# Altium schematic symbol library TLV9161IDBVR.SchLib: 1 symbol
Pins are listed as number, name and electrical type; pins without a type are passive.

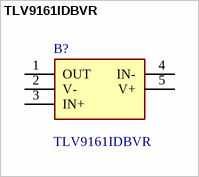
[diagram p0: symbol TLV9161IDBVR]

## TLV9161IDBVR
designator B?
Operational Amplifiers - Op Amps Single 10-MHz, 16-V rail-to-rail input/output, very low noise, high slew rate op amp; Manufacturer_Name: Texas Instruments; Geometry.Height: 1.45mm; Mouser Part Number: 595-TLV9161IDBVR; Mouser Price/Stock: https://www.mouser.co.uk/ProductDetail/Texas-Instruments/TLV9161IDBVR?qs=Rp5uXu7WBW%2FkWJAGvxG3xQ%3D%3D; Manufacturer_Part_Number: TLV9161IDBVR; Datasheet Link: https://www.ti.com/lit/ds/symlink/tlv9161.pdf?HQS=dis-mous-null-mousermode-dsf-pf-null-wwe&ts=1675947383550&ref_url=https%253A%252F%252Fwww.mouser.de%252F
footprint SOT95P280X145-5N
pins: 1 OUT, 2 V-, 3 IN+, 4 IN-, 5 V+